# Altium footprint library TSSOP.PcbLib: 1 footprints
Each footprint in its own frame and in the unit in brackets; x right, y up, seen from the top. Pads: shape width x height; smd on the part's side, far side on the other; paste and mask are expansions set on the pad; w line width, h text height; cw(c..) or ccw(c..) is an arc to the next point about the centre after c.
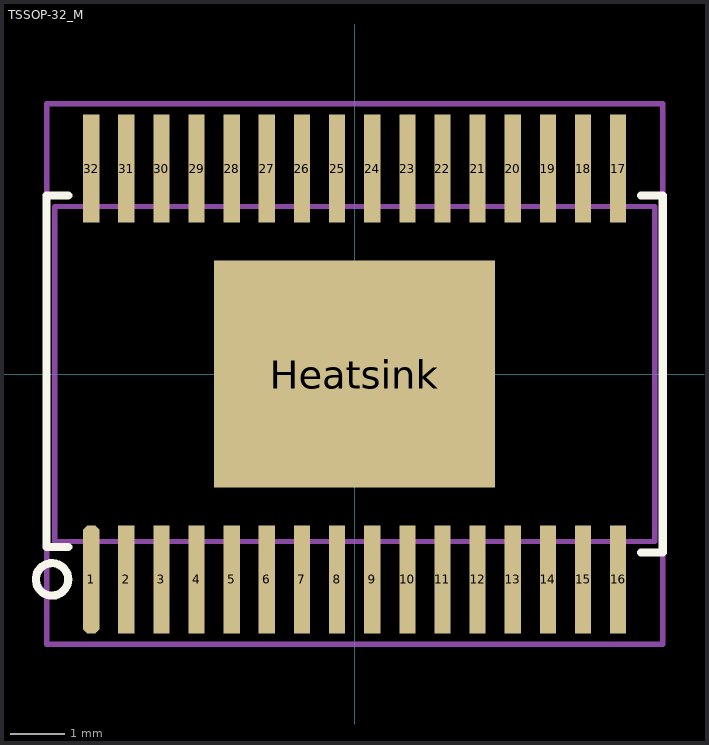
[diagram p0: the footprint, top view; thin cyan lines are the x and y axes]

## TSSOP-32_M [mm] "TSSOP, 32-Leads, Body 11x6.2mm, Pitch 0.65mm, Lead Span 8.3mm, IPC Low Density"
height 1.2
pads (33):
  oct 0.3x2 smd paste-0.025: 1(-4.875,-3.8)
  rect 0.3x2 smd paste-0.025: 2(-4.225,-3.8) 3(-3.575,-3.8) 4(-2.925,-3.8) 5(-2.275,-3.8) 6(-1.625,-3.8) 7(-0.975,-3.8) 8(-0.325,-3.8) 9(0.325,-3.8) 10(0.975,-3.8) 11(1.625,-3.8) 12(2.275,-3.8) 13(2.925,-3.8) 14(3.575,-3.8) 15(4.225,-3.8) 16(4.875,-3.8) 17(4.875,3.8) 18(4.225,3.8) 19(3.575,3.8) 20(2.925,3.8) 21(2.275,3.8) 22(1.625,3.8) 23(0.975,3.8) 24(0.325,3.8) 25(-0.325,3.8) 26(-0.975,3.8) 27(-1.625,3.8) 28(-2.275,3.8) 29(-2.925,3.8) 30(-3.575,3.8) 31(-4.225,3.8) 32(-4.875,3.8)
  rect 5.2x4.2 smd: Heatsink(0,0)
Top Overlay:
  circle w0.15: c-5.6,-3.8 r0.3
  lines w0.15: -5.3,-3.2 -5.7,-3.2 -5.7,3.3 -5.3,3.3 ; 5.3,-3.3 5.7,-3.3 5.7,3.3 5.3,3.3
Mechanical 13:
  lines w0.1: -5.55,-3.1 -5.55,3.1 5.55,3.1 5.55,-3.1 -5.55,-3.1
Mechanical 15:
  lines w0.1: -2,0 2,0 ; 0,-2 0,2 ; -5.7,-5 5.7,-5 5.7,5 -5.7,5 -5.7,-5
3D body: height 1.2, standoff 0.15, extent -5.55,-3.1 5.55,3.1